# Altium schematic symbol library 84952-6.SchLib: 1 symbol
Pins are listed as number, name and electrical type; pins without a type are passive.

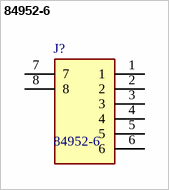
[diagram p0: symbol 84952-6]

## 84952-6
designator J?
Body Features: Primary Product Color Natural | Configuration Features: PCB Mount Orientation Right Angle | Compatible With Wire & Cable Type FPC | Compatible With Wire & Cable Type FFC | Number of Positions 6 | Number of Rows 1 | Contact Features: Contact Mating Area Plating Material Tin | PCB Contact Termination Area Plating Material Thickness 2 MICM | Contact Mating Area Plating Material Thickness 2 MICM | Contact Current Rating (Max) 1 AMP | Contact Shape & Form Single Beam | PCB Contact Termination Area; Manufacturer_Name: TE Connectivity; Geometry.Height: 2.12mm; Mouser Part Number: 571-84952-6; Mouser Price/Stock: https://www.mouser.co.uk/ProductDetail/TE-Connectivity/84952-6?qs=uUkeXfjQ8uRheCYN9AcwcA%3D%3D; Manufacturer_Part_Number: 84952-6; Datasheet Link: https://www.te.com/commerce/DocumentDelivery/DDEController?Action=srchrtrv&DocNm=5-1773461-0_Standard_FPC_Connectors_QRG&DocType=Data%20Sheet&DocLang=English&PartCntxt=84952-6&DocFormat=pdf
footprint 849526
pins: 1, 2, 3, 4, 5, 6, 7, 8